# EAGLE library part XCL232D091KR-G (library XCL232D091KR-G)
Ultra-Low Quiescent Current, Inductor Built-in Step-Down DC/DC Converter, CL-2025-03 Source: Datasheet <https://www.torexsemi.com/file/xcl232/xcl232.pdf>
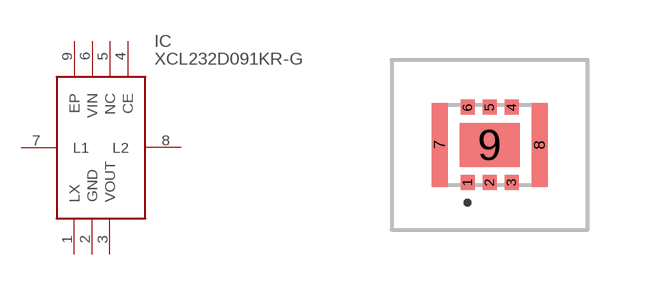
[diagram p0: symbol with the pads of XCL232B051KRG; footprint XCL232B051KRG]

Designator prefix IC

## XCL232D091KR-G (Description: Ultra-Low Quiescent Current, Inductor Built-in Step-Down DC/DC Converter, CL-2025-03; Height: 1.04mm; Manufacturer_Name: Torex; Manufacturer_Part_Number: XCL232D091KR-G; Mouser_Part_Number: 865-XCL232D091KR-G; Mouser_Price-Stock: https://www.mouser.co.uk/ProductDetail/Torex-Semiconductor/XCL232D091KR-G?qs=Znm5pLBrcAIAF3XJtDZJsg%3D%3D)  [XCL232B051KRG]
1  LX
2  GND
3  VOUT
4  CE
5  NC  nc
6  VIN
7  L1
8  L2
9  EP

## Footprint XCL232B051KRG (pad centres in mm)
CL-2025-03
smd 0.35 x 0.375: 1 -0.55,-0.938; 2 0,-0.938; 3 0.55,-0.938; 4 0.55,0.938; 5 0,0.938; 6 -0.55,0.938
smd 0.4 x 2.1: 7 -1.25,0; 8 1.25,0
smd 1.5 x 1.1: 9 0,0